# Altium schematic symbol library KTIR0711S.SchLib: 1 symbol
Pins are listed as number, name and electrical type; pins without a type are passive.

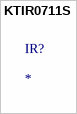
[diagram p0: symbol KTIR0711S]

## KTIR0711S
designator IR?
footprint KTIR0711S
1 alternate drawing of the same symbol